# Altium schematic symbol library BGS14PN10E6327XTSA1.SchLib: 1 symbol
Pins are listed as number, name and electrical type; pins without a type are passive.

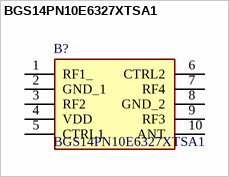
[diagram p0: symbol BGS14PN10E6327XTSA1]

## BGS14PN10E6327XTSA1
designator B?
RF Switch ICs CMOS SWITCH; Manufacturer_Name: Infineon; Geometry.Height: 0.4mm; Mouser Part Number: 726-BGS14PN10E6327X; Mouser Price/Stock: https://www.mouser.co.uk/ProductDetail/Infineon-Technologies/BGS14PN10E6327XTSA1?qs=Qyx3PVvfm66pcd0rXrz2LA%3D%3D; Manufacturer_Part_Number: BGS14PN10E6327XTSA1; Datasheet Link: *
footprint BGS14PN10E6327XTSA1
pins: 1 RF1_, 2 GND_1, 3 RF2, 4 VDD, 5 CTRL1, 6 CTRL2, 7 RF4, 8 GND_2, 9 RF3, 10 ANT